# Altium schematic symbol library 4.7uF.SchLib: 1 symbol
Pins are listed as number, name and electrical type; pins without a type are passive.

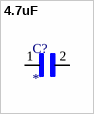
[diagram p0: symbol 4.7uF]

## 4.7uF
designator C?
4.7UF 25V 10% 0603; MP: GRT188R61E475KE13D; Package: None; Price: None; Value: *; Availability: Unavailable
footprint 4.7uF
pins: 1, 2